# EAGLE library part OBD2-90DEG (library obd2)
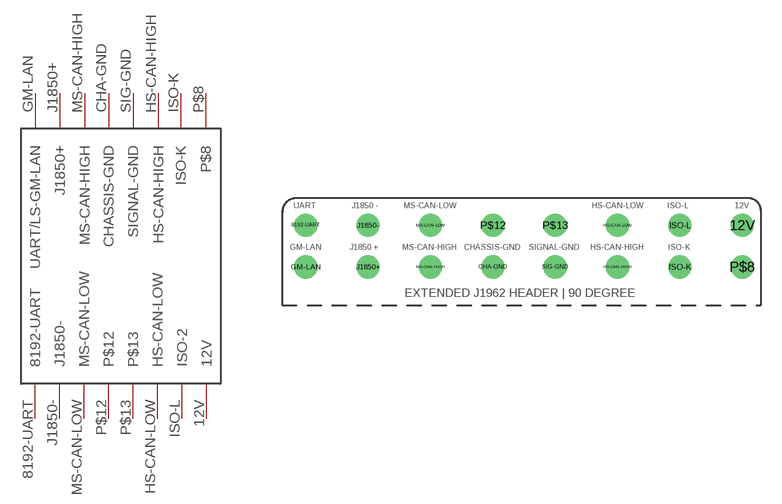
[diagram p0: symbol with the pads of OBD2-90DEG; footprint OBD2-90DEG]

Designator prefix -

## OBD2-90DEG  [OBD2-90DEG]
12V  12V  pwr
8192-UART  8192-UART
CHA-GND  CHASSIS-GND  pwr
GM-LAN  UART/LS-GM-LAN
HS-CAN-HIGH  HS-CAN-HIGH
HS-CAN-LOW  HS-CAN-LOW
ISO-K  ISO-K
ISO-L  ISO-2
J1850+  J1850+
J1850-  J1850-
MS-CAN-HIGH  MS-CAN-HIGH
MS-CAN-LOW  MS-CAN-LOW
P$8  P$8
P$12  P$12
P$13  P$13
SIG-GND  SIGNAL-GND  pwr

## Footprint OBD2-90DEG (pad centres in mm)
drill 1 pad 1.676: 12V 33.171,5.769; 8192-UART 1.671,5.769; CHA-GND 15.171,2.769; GM-LAN 1.671,2.769; HS-CAN-HIGH 24.171,2.769; HS-CAN-LOW 24.171,5.769; ISO-K 28.671,2.769; ISO-L 28.671,5.769; J1850+ 6.171,2.769; J1850- 6.171,5.769; MS-CAN-HIGH 10.671,2.769; MS-CAN-LOW 10.671,5.769; P$8 33.171,2.769; P$12 15.171,5.769; P$13 19.671,5.769; SIG-GND 19.671,2.769